# Altium footprint library PE4259_ours.PcbLib: 1 footprints
Each footprint in its own frame and in the unit in brackets; x right, y up, seen from the top. Pads: shape width x height; smd on the part's side, far side on the other; paste and mask are expansions set on the pad; w line width, h text height; cw(c..) or ccw(c..) is an arc to the next point about the centre after c.
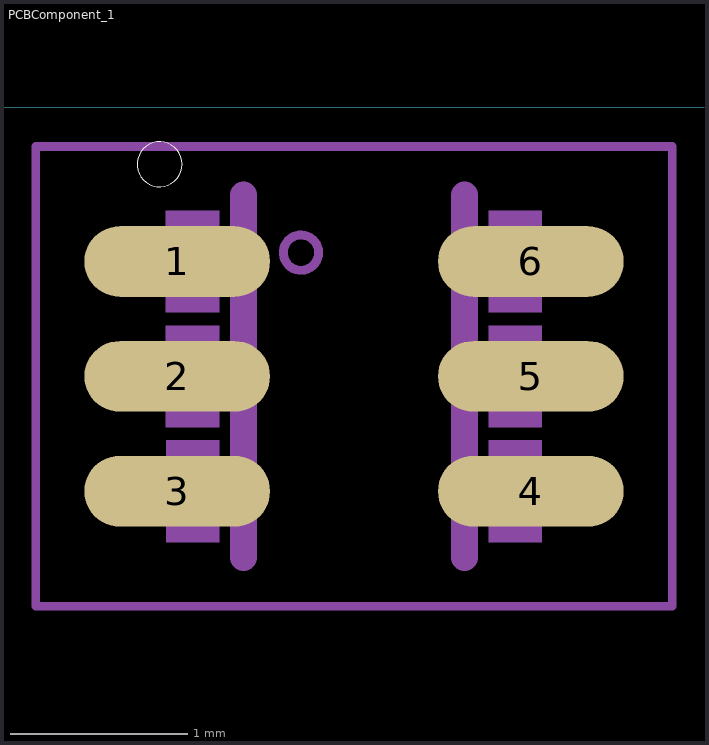
[diagram p0: the footprint, top view; thin cyan lines are the x and y axes]

## PCBComponent_1 [mm]
pads (6):
  oval 1.05x0.4 smd: 1(1.159,-0.872) 2(1.159,-1.522) 3(1.159,-2.172) 4(3.159,-2.172) 5(3.159,-1.522) 6(3.159,-0.872)
Top Overlay:
  circle w0: c1.059,-0.322 r0.127
Mechanical 13:
  circle w0.05: c1.859,-0.822 r0.1
  region: 3.221,-1.159 2.922,-1.159 2.922,-0.585 3.221,-0.585
  region: 3.221,-1.81 2.922,-1.81 2.922,-1.235 3.221,-1.235
  region: 3.221,-2.461 2.922,-2.461 2.922,-1.885 3.221,-1.885
  region: 1.396,-2.46 1.096,-2.46 1.096,-1.885 1.396,-1.885
  region: 1.396,-1.159 1.094,-1.159 1.094,-0.585 1.396,-0.585
  region: 1.396,-1.81 1.094,-1.81 1.094,-1.235 1.396,-1.235
  lines w0.152: 1.534,-2.547 1.534,-0.497 ; 2.784,-2.547 2.784,-0.497
Mechanical 15:
  lines w0.05: 0.359,-2.822 0.359,-0.222 3.959,-0.222 3.959,-2.822 0.359,-2.822